# Altium integrated library National Semiconductor Switcher.IntLib: 2226 symbols (part 7 of 59)
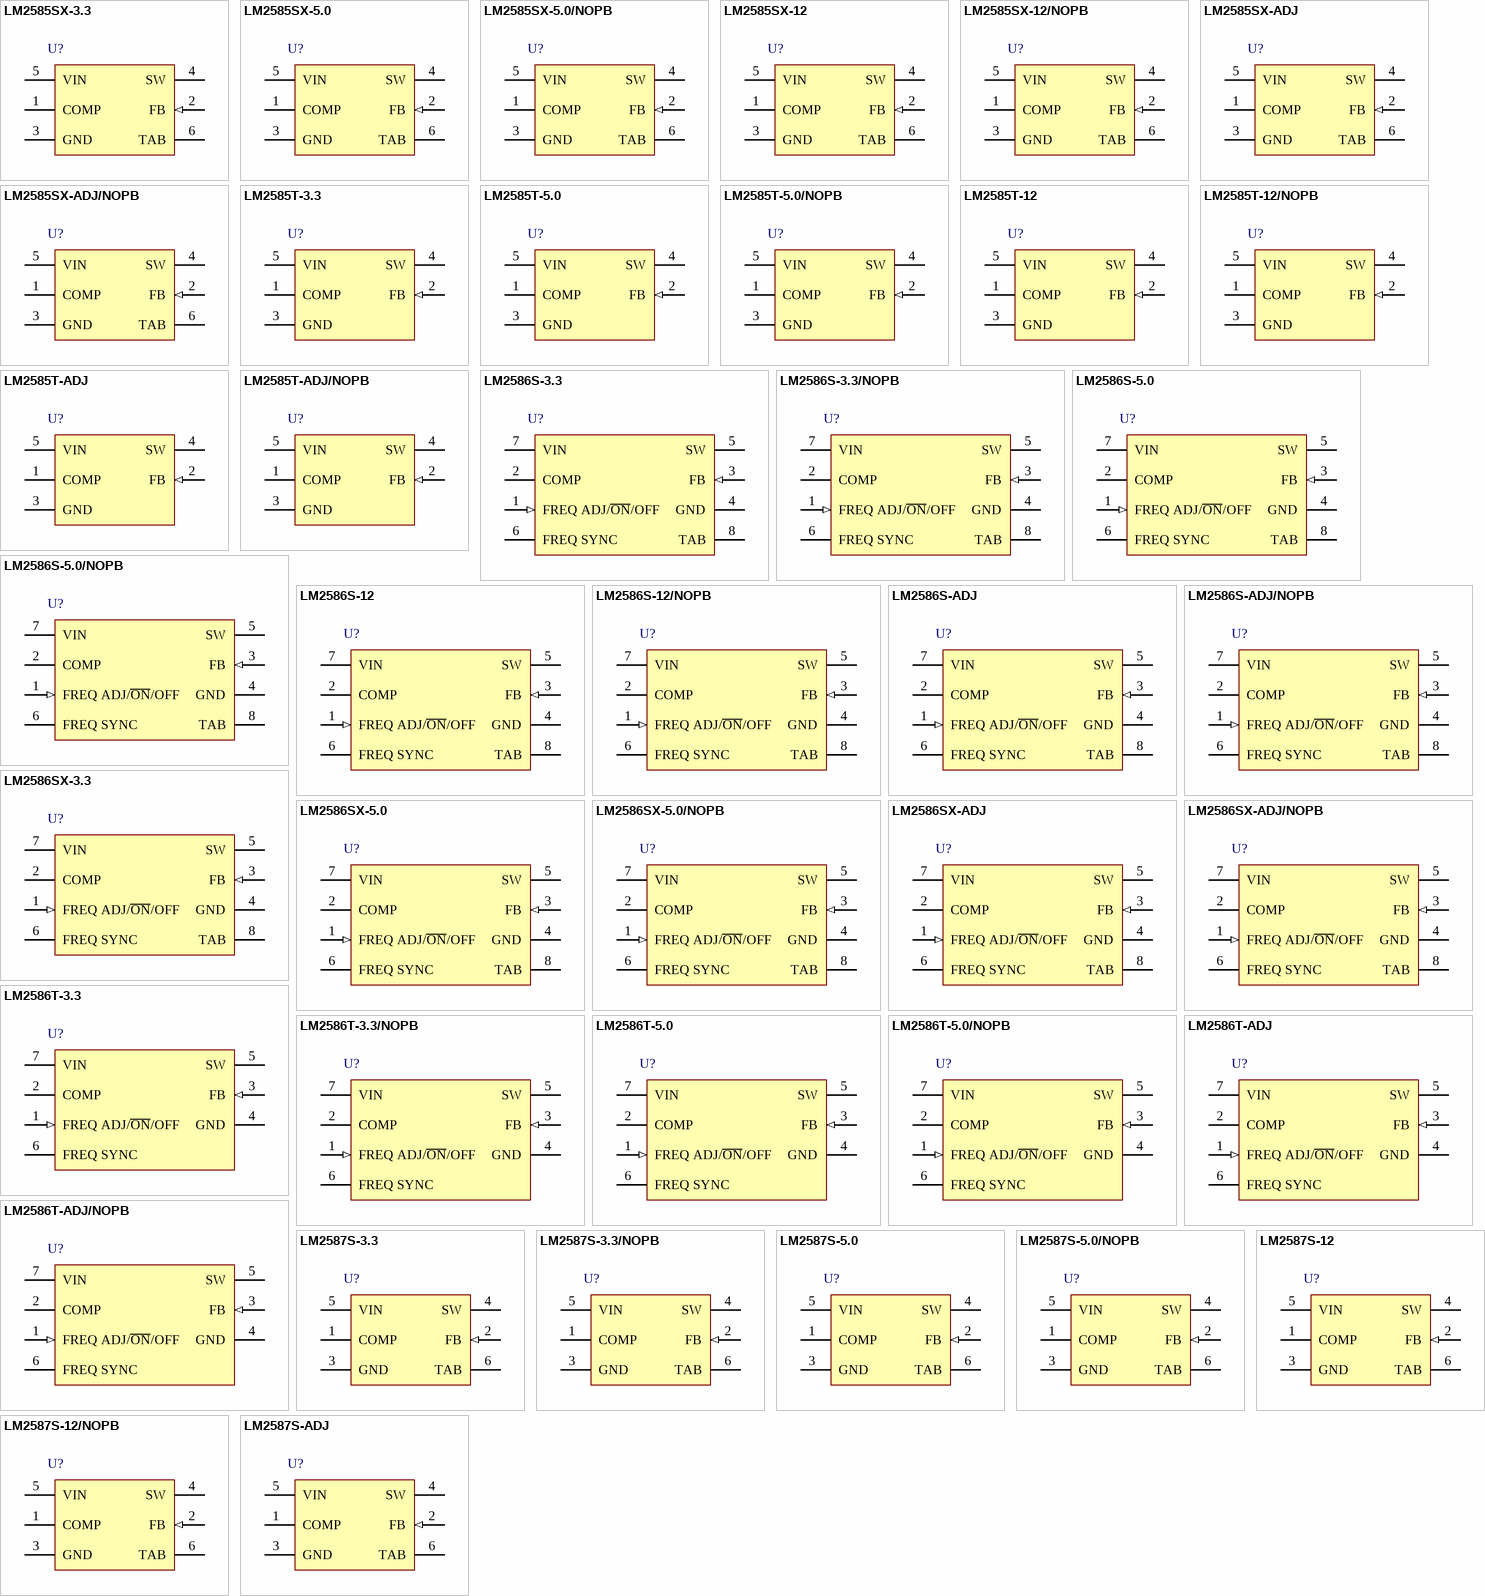
[diagram p75: symbols LM2585SX-3.3 to LM2587S-ADJ]

## LM2585SX-12/NOPB
designator U?
SIMPLE SWITCHER® 3-Amp Flyback Regulator, 5-pin TO-263, Pb-Free; PartNumber: LM2585SX-12/NOPB; Manufacturer: National Semiconductor; PackageTopMarking: NSUZXYTTE#*LM2585S*-12 P+; PowerWise: N; High-Reliability: Y; DatasheetVersion: Feb-2010; PackageVersion: revD, Apr-2005; PackageReference: TS5B; PackageDescription: TO-263, Molded, .400 x .390 x .180in, 5 Lead, .067in Pitch, Surface Mount; RoHS: Y; PinCount: 5; CompType: Switcher; Code_JEDEC: MO-169-AB; ComponentLink1Description: Manufacturer URL; ComponentLink1URL: http://www.national.com/; ComponentLink2Description: LM2585 Datasheet; ComponentLink2URL: http://www.national.com/ds/LM/LM2585.pdf; ComponentLink3Description: LM2585 Web Page; ComponentLink3URL: http://www.national.com/pf/LM/LM2585.html; ComponentLink4Description: TS5B Package Page; ComponentLink4URL: http://www.national.com/packaging/folders/ts5b.html
footprint TS5B_N (D2-PAK, 6-Leads, Body 8.6x10.2mm, Pitch 1.7mm, Lead Span 14.1mm, IPC Medium Density)
footprint TS5B_L (D2-PAK, 6-Leads, Body 8.6x10.2mm, Pitch 1.7mm, Lead Span 14.1mm, IPC High Density)
footprint TS5B_M (D2-PAK, 6-Leads, Body 8.6x10.2mm, Pitch 1.7mm, Lead Span 14.1mm, IPC Low Density)
pins: 1 COMP, 2 FB (in), 3 GND (power), 4 SW (power), 5 VIN (power), 6 TAB

## LM2585SX-ADJ
designator U?
SIMPLE SWITCHER® 3-Amp Flyback Regulator, 5-pin TO-263; PartNumber: LM2585SX-ADJ; Manufacturer: National Semiconductor; PackageTopMarking: NSUZXYTTE#*LM2585S*-ADJ P+; PowerWise: N; High-Reliability: Y; DatasheetVersion: Feb-2010; PackageVersion: revD, Apr-2005; PackageReference: TS5B; PackageDescription: TO-263, Molded, .400 x .390 x .180in, 5 Lead, .067in Pitch, Surface Mount; RoHS: N; PinCount: 5; CompType: Switcher; Code_JEDEC: MO-169-AB; ComponentLink1Description: Manufacturer URL; ComponentLink1URL: http://www.national.com/; ComponentLink2Description: LM2585 Datasheet; ComponentLink2URL: http://www.national.com/ds/LM/LM2585.pdf; ComponentLink3Description: LM2585 Web Page; ComponentLink3URL: http://www.national.com/pf/LM/LM2585.html; ComponentLink4Description: TS5B Package Page; ComponentLink4URL: http://www.national.com/packaging/folders/ts5b.html
footprint TS5B_N (D2-PAK, 6-Leads, Body 8.6x10.2mm, Pitch 1.7mm, Lead Span 14.1mm, IPC Medium Density)
footprint TS5B_L (D2-PAK, 6-Leads, Body 8.6x10.2mm, Pitch 1.7mm, Lead Span 14.1mm, IPC High Density)
footprint TS5B_M (D2-PAK, 6-Leads, Body 8.6x10.2mm, Pitch 1.7mm, Lead Span 14.1mm, IPC Low Density)
pins: 1 COMP, 2 FB (in), 3 GND (power), 4 SW (power), 5 VIN (power), 6 TAB

## LM2585SX-ADJ/NOPB
designator U?
SIMPLE SWITCHER® 3-Amp Flyback Regulator, 5-pin TO-263, Pb-Free; PartNumber: LM2585SX-ADJ/NOPB; Manufacturer: National Semiconductor; PackageTopMarking: NSUZXYTTE#*LM2585S*-ADJ P+; PowerWise: N; High-Reliability: Y; DatasheetVersion: Feb-2010; PackageVersion: revD, Apr-2005; PackageReference: TS5B; PackageDescription: TO-263, Molded, .400 x .390 x .180in, 5 Lead, .067in Pitch, Surface Mount; RoHS: Y; PinCount: 5; CompType: Switcher; Code_JEDEC: MO-169-AB; ComponentLink1Description: Manufacturer URL; ComponentLink1URL: http://www.national.com/; ComponentLink2Description: LM2585 Datasheet; ComponentLink2URL: http://www.national.com/ds/LM/LM2585.pdf; ComponentLink3Description: LM2585 Web Page; ComponentLink3URL: http://www.national.com/pf/LM/LM2585.html; ComponentLink4Description: TS5B Package Page; ComponentLink4URL: http://www.national.com/packaging/folders/ts5b.html
footprint TS5B_N (D2-PAK, 6-Leads, Body 8.6x10.2mm, Pitch 1.7mm, Lead Span 14.1mm, IPC Medium Density)
footprint TS5B_L (D2-PAK, 6-Leads, Body 8.6x10.2mm, Pitch 1.7mm, Lead Span 14.1mm, IPC High Density)
footprint TS5B_M (D2-PAK, 6-Leads, Body 8.6x10.2mm, Pitch 1.7mm, Lead Span 14.1mm, IPC Low Density)
pins: 1 COMP, 2 FB (in), 3 GND (power), 4 SW (power), 5 VIN (power), 6 TAB

## LM2585T-3.3
designator U?
SIMPLE SWITCHER® 3-Amp Flyback Regulator, 5-pin TO-220; PartNumber: LM2585T-3.3; Manufacturer: National Semiconductor; PackageTopMarking: NSUZXYTTE#*LM2585T*-3.3 P+; PowerWise: N; High-Reliability: Y; DatasheetVersion: Feb-2010; PackageVersion: revA, Oct-1989; PackageReference: T05D; PackageDescription: TO-220, Molded, Stagger Bend, 5 Lead; RoHS: N; PinCount: 5; CompType: Switcher; ComponentLink1Description: Manufacturer URL; ComponentLink1URL: http://www.national.com/; ComponentLink2Description: LM2585 Datasheet; ComponentLink2URL: http://www.national.com/ds/LM/LM2585.pdf; ComponentLink3Description: LM2585 Web Page; ComponentLink3URL: http://www.national.com/pf/LM/LM2585.html; ComponentLink4Description: T05D Package Page; ComponentLink4URL: http://www.national.com/packaging/folders/t05d.html
footprint T05D (TO, Thru-Hole, Vertical, Heatsink Mounted; 5 Bent Staggered Leads; Body 10.3x8.6x4.6mm, Pitch 1.7 mm)
pins: 1 COMP, 2 FB (in), 3 GND (power), 4 SW (power), 5 VIN (power)

## LM2585T-5.0
designator U?
SIMPLE SWITCHER® 3-Amp Flyback Regulator, 5-pin TO-220; PartNumber: LM2585T-5.0; Manufacturer: National Semiconductor; PackageTopMarking: NSUZXYTTE#*LM2585T*-5.0 P+; PowerWise: N; High-Reliability: Y; DatasheetVersion: Feb-2010; PackageVersion: revA, Oct-1989; PackageReference: T05D; PackageDescription: TO-220, Molded, Stagger Bend, 5 Lead; RoHS: N; PinCount: 5; CompType: Switcher; ComponentLink1Description: Manufacturer URL; ComponentLink1URL: http://www.national.com/; ComponentLink2Description: LM2585 Datasheet; ComponentLink2URL: http://www.national.com/ds/LM/LM2585.pdf; ComponentLink3Description: LM2585 Web Page; ComponentLink3URL: http://www.national.com/pf/LM/LM2585.html; ComponentLink4Description: T05D Package Page; ComponentLink4URL: http://www.national.com/packaging/folders/t05d.html
footprint T05D (TO, Thru-Hole, Vertical, Heatsink Mounted; 5 Bent Staggered Leads; Body 10.3x8.6x4.6mm, Pitch 1.7 mm)
pins: 1 COMP, 2 FB (in), 3 GND (power), 4 SW (power), 5 VIN (power)

## LM2585T-5.0/NOPB
designator U?
SIMPLE SWITCHER® 3-Amp Flyback Regulator, 5-pin TO-220, Pb-Free; PartNumber: LM2585T-5.0/NOPB; Manufacturer: National Semiconductor; PackageTopMarking: NSUZXYTTE#*LM2585T*-5.0 P+; PowerWise: N; High-Reliability: Y; DatasheetVersion: Feb-2010; PackageVersion: revA, Oct-1989; PackageReference: T05D; PackageDescription: TO-220, Molded, Stagger Bend, 5 Lead; RoHS: Y; PinCount: 5; CompType: Switcher; ComponentLink1Description: Manufacturer URL; ComponentLink1URL: http://www.national.com/; ComponentLink2Description: LM2585 Datasheet; ComponentLink2URL: http://www.national.com/ds/LM/LM2585.pdf; ComponentLink3Description: LM2585 Web Page; ComponentLink3URL: http://www.national.com/pf/LM/LM2585.html; ComponentLink4Description: T05D Package Page; ComponentLink4URL: http://www.national.com/packaging/folders/t05d.html
footprint T05D (TO, Thru-Hole, Vertical, Heatsink Mounted; 5 Bent Staggered Leads; Body 10.3x8.6x4.6mm, Pitch 1.7 mm)
pins: 1 COMP, 2 FB (in), 3 GND (power), 4 SW (power), 5 VIN (power)

## LM2585T-12
designator U?
SIMPLE SWITCHER® 3-Amp Flyback Regulator, 5-pin TO-220; PartNumber: LM2585T-12; Manufacturer: National Semiconductor; PackageTopMarking: NSUZXYTTE#*LM2585T*-12 P+; PowerWise: N; High-Reliability: Y; DatasheetVersion: Feb-2010; PackageVersion: revA, Oct-1989; PackageReference: T05D; PackageDescription: TO-220, Molded, Stagger Bend, 5 Lead; RoHS: N; PinCount: 5; CompType: Switcher; ComponentLink1Description: Manufacturer URL; ComponentLink1URL: http://www.national.com/; ComponentLink2Description: LM2585 Datasheet; ComponentLink2URL: http://www.national.com/ds/LM/LM2585.pdf; ComponentLink3Description: LM2585 Web Page; ComponentLink3URL: http://www.national.com/pf/LM/LM2585.html; ComponentLink4Description: T05D Package Page; ComponentLink4URL: http://www.national.com/packaging/folders/t05d.html
footprint T05D (TO, Thru-Hole, Vertical, Heatsink Mounted; 5 Bent Staggered Leads; Body 10.3x8.6x4.6mm, Pitch 1.7 mm)
pins: 1 COMP, 2 FB (in), 3 GND (power), 4 SW (power), 5 VIN (power)

## LM2585T-12/NOPB
designator U?
SIMPLE SWITCHER® 3-Amp Flyback Regulator, 5-pin TO-220, Pb-Free; PartNumber: LM2585T-12/NOPB; Manufacturer: National Semiconductor; PackageTopMarking: NSUZXYTTE#*LM2585T*-12 P+; PowerWise: N; High-Reliability: Y; DatasheetVersion: Feb-2010; PackageVersion: revA, Oct-1989; PackageReference: T05D; PackageDescription: TO-220, Molded, Stagger Bend, 5 Lead; RoHS: Y; PinCount: 5; CompType: Switcher; ComponentLink1Description: Manufacturer URL; ComponentLink1URL: http://www.national.com/; ComponentLink2Description: LM2585 Datasheet; ComponentLink2URL: http://www.national.com/ds/LM/LM2585.pdf; ComponentLink3Description: LM2585 Web Page; ComponentLink3URL: http://www.national.com/pf/LM/LM2585.html; ComponentLink4Description: T05D Package Page; ComponentLink4URL: http://www.national.com/packaging/folders/t05d.html
footprint T05D (TO, Thru-Hole, Vertical, Heatsink Mounted; 5 Bent Staggered Leads; Body 10.3x8.6x4.6mm, Pitch 1.7 mm)
pins: 1 COMP, 2 FB (in), 3 GND (power), 4 SW (power), 5 VIN (power)

## LM2585T-ADJ
designator U?
SIMPLE SWITCHER® 3-Amp Flyback Regulator, 5-pin TO-220; PartNumber: LM2585T-ADJ; Manufacturer: National Semiconductor; PackageTopMarking: NSUZXYTTE#*LM2585T*-ADJ P+; PowerWise: N; High-Reliability: Y; DatasheetVersion: Feb-2010; PackageVersion: revA, Oct-1989; PackageReference: T05D; PackageDescription: TO-220, Molded, Stagger Bend, 5 Lead; RoHS: N; PinCount: 5; CompType: Switcher; ComponentLink1Description: Manufacturer URL; ComponentLink1URL: http://www.national.com/; ComponentLink2Description: LM2585 Datasheet; ComponentLink2URL: http://www.national.com/ds/LM/LM2585.pdf; ComponentLink3Description: LM2585 Web Page; ComponentLink3URL: http://www.national.com/pf/LM/LM2585.html; ComponentLink4Description: T05D Package Page; ComponentLink4URL: http://www.national.com/packaging/folders/t05d.html
footprint T05D (TO, Thru-Hole, Vertical, Heatsink Mounted; 5 Bent Staggered Leads; Body 10.3x8.6x4.6mm, Pitch 1.7 mm)
pins: 1 COMP, 2 FB (in), 3 GND (power), 4 SW (power), 5 VIN (power)

## LM2585T-ADJ/NOPB
designator U?
SIMPLE SWITCHER® 3-Amp Flyback Regulator, 5-pin TO-220, Pb-Free; PartNumber: LM2585T-ADJ/NOPB; Manufacturer: National Semiconductor; PackageTopMarking: NSUZXYTTE#*LM2585T*-ADJ P+; PowerWise: N; High-Reliability: Y; DatasheetVersion: Feb-2010; PackageVersion: revA, Oct-1989; PackageReference: T05D; PackageDescription: TO-220, Molded, Stagger Bend, 5 Lead; RoHS: Y; PinCount: 5; CompType: Switcher; ComponentLink1Description: Manufacturer URL; ComponentLink1URL: http://www.national.com/; ComponentLink2Description: LM2585 Datasheet; ComponentLink2URL: http://www.national.com/ds/LM/LM2585.pdf; ComponentLink3Description: LM2585 Web Page; ComponentLink3URL: http://www.national.com/pf/LM/LM2585.html; ComponentLink4Description: T05D Package Page; ComponentLink4URL: http://www.national.com/packaging/folders/t05d.html
footprint T05D (TO, Thru-Hole, Vertical, Heatsink Mounted; 5 Bent Staggered Leads; Body 10.3x8.6x4.6mm, Pitch 1.7 mm)
pins: 1 COMP, 2 FB (in), 3 GND (power), 4 SW (power), 5 VIN (power)

## LM2586S-3.3
designator U?
SIMPLE SWITCHER® 3-Amp Flyback Regulator, 7-pin TO-263; PartNumber: LM2586S-3.3; Manufacturer: National Semiconductor; PackageTopMarking: NSUZXYTTE#*LM2586S*-3.3 P+; PowerWise: N; High-Reliability: Y; DatasheetVersion: Jul-2005; PackageVersion: revE, Jul-2003; PackageReference: TS7B; PackageDescription: TO-263, Molded, .400 x .390 x .180in Body, 7 Lead, .050in Pitch, Surface Mount; RoHS: N; PinCount: 7; CompType: Switcher; Code_JEDEC: MO-169-AC; ComponentLink1Description: Manufacturer URL; ComponentLink1URL: http://www.national.com/; ComponentLink2Description: LM2586 Datasheet; ComponentLink2URL: http://www.national.com/ds/LM/LM2586.pdf; ComponentLink3Description: LM2586 Web Page; ComponentLink3URL: http://www.national.com/pf/LM/LM2586.html; ComponentLink4Description: TS7B Package Page; ComponentLink4URL: http://www.national.com/packaging/folders/ts7b.html
footprint TS7B_N (D2-PAK, 8-Leads, Body 8.6x10.2mm, Pitch 1.27mm, Lead Span 14.1mm, IPC Medium Density)
footprint TS7B_L (D2-PAK, 8-Leads, Body 8.6x10.2mm, Pitch 1.27mm, Lead Span 14.1mm, IPC High Density)
footprint TS7B_M (D2-PAK, 8-Leads, Body 8.6x10.2mm, Pitch 1.27mm, Lead Span 14.1mm, IPC Low Density)
pins: 1 FREQ ADJ/~{ON}/OFF (in), 2 COMP, 3 FB (in), 4 GND (power), 5 SW (power), 6 FREQ SYNC, 7 VIN (power), 8 TAB

## LM2586S-3.3/NOPB
designator U?
SIMPLE SWITCHER® 3-Amp Flyback Regulator, 7-pin TO-263, Pb-Free; PartNumber: LM2586S-3.3/NOPB; Manufacturer: National Semiconductor; PackageTopMarking: NSUZXYTTE#*LM2586S*-3.3 P+; PowerWise: N; High-Reliability: Y; DatasheetVersion: Jul-2005; PackageVersion: revE, Jul-2003; PackageReference: TS7B; PackageDescription: TO-263, Molded, .400 x .390 x .180in Body, 7 Lead, .050in Pitch, Surface Mount; RoHS: Y; PinCount: 7; CompType: Switcher; Code_JEDEC: MO-169-AC; ComponentLink1Description: Manufacturer URL; ComponentLink1URL: http://www.national.com/; ComponentLink2Description: LM2586 Datasheet; ComponentLink2URL: http://www.national.com/ds/LM/LM2586.pdf; ComponentLink3Description: LM2586 Web Page; ComponentLink3URL: http://www.national.com/pf/LM/LM2586.html; ComponentLink4Description: TS7B Package Page; ComponentLink4URL: http://www.national.com/packaging/folders/ts7b.html
footprint TS7B_N (D2-PAK, 8-Leads, Body 8.6x10.2mm, Pitch 1.27mm, Lead Span 14.1mm, IPC Medium Density)
footprint TS7B_L (D2-PAK, 8-Leads, Body 8.6x10.2mm, Pitch 1.27mm, Lead Span 14.1mm, IPC High Density)
footprint TS7B_M (D2-PAK, 8-Leads, Body 8.6x10.2mm, Pitch 1.27mm, Lead Span 14.1mm, IPC Low Density)
pins: 1 FREQ ADJ/~{ON}/OFF (in), 2 COMP, 3 FB (in), 4 GND (power), 5 SW (power), 6 FREQ SYNC, 7 VIN (power), 8 TAB

## LM2586S-5.0
designator U?
SIMPLE SWITCHER® 3-Amp Flyback Regulator, 7-pin TO-263; PartNumber: LM2586S-5.0; Manufacturer: National Semiconductor; PackageTopMarking: NSUZXYTTE#*LM2586S*-5.0 P+; PowerWise: N; High-Reliability: Y; DatasheetVersion: Jul-2005; PackageVersion: revE, Jul-2003; PackageReference: TS7B; PackageDescription: TO-263, Molded, .400 x .390 x .180in Body, 7 Lead, .050in Pitch, Surface Mount; RoHS: N; PinCount: 7; CompType: Switcher; Code_JEDEC: MO-169-AC; ComponentLink1Description: Manufacturer URL; ComponentLink1URL: http://www.national.com/; ComponentLink2Description: LM2586 Datasheet; ComponentLink2URL: http://www.national.com/ds/LM/LM2586.pdf; ComponentLink3Description: LM2586 Web Page; ComponentLink3URL: http://www.national.com/pf/LM/LM2586.html; ComponentLink4Description: TS7B Package Page; ComponentLink4URL: http://www.national.com/packaging/folders/ts7b.html
footprint TS7B_N (D2-PAK, 8-Leads, Body 8.6x10.2mm, Pitch 1.27mm, Lead Span 14.1mm, IPC Medium Density)
footprint TS7B_L (D2-PAK, 8-Leads, Body 8.6x10.2mm, Pitch 1.27mm, Lead Span 14.1mm, IPC High Density)
footprint TS7B_M (D2-PAK, 8-Leads, Body 8.6x10.2mm, Pitch 1.27mm, Lead Span 14.1mm, IPC Low Density)
pins: 1 FREQ ADJ/~{ON}/OFF (in), 2 COMP, 3 FB (in), 4 GND (power), 5 SW (power), 6 FREQ SYNC, 7 VIN (power), 8 TAB

## LM2586S-5.0/NOPB
designator U?
SIMPLE SWITCHER® 3-Amp Flyback Regulator, 7-pin TO-263, Pb-Free; PartNumber: LM2586S-5.0/NOPB; Manufacturer: National Semiconductor; PackageTopMarking: NSUZXYTTE#*LM2586S*-5.0 P+; PowerWise: N; High-Reliability: Y; DatasheetVersion: Jul-2005; PackageVersion: revE, Jul-2003; PackageReference: TS7B; PackageDescription: TO-263, Molded, .400 x .390 x .180in Body, 7 Lead, .050in Pitch, Surface Mount; RoHS: Y; PinCount: 7; CompType: Switcher; Code_JEDEC: MO-169-AC; ComponentLink1Description: Manufacturer URL; ComponentLink1URL: http://www.national.com/; ComponentLink2Description: LM2586 Datasheet; ComponentLink2URL: http://www.national.com/ds/LM/LM2586.pdf; ComponentLink3Description: LM2586 Web Page; ComponentLink3URL: http://www.national.com/pf/LM/LM2586.html; ComponentLink4Description: TS7B Package Page; ComponentLink4URL: http://www.national.com/packaging/folders/ts7b.html
footprint TS7B_N (D2-PAK, 8-Leads, Body 8.6x10.2mm, Pitch 1.27mm, Lead Span 14.1mm, IPC Medium Density)
footprint TS7B_L (D2-PAK, 8-Leads, Body 8.6x10.2mm, Pitch 1.27mm, Lead Span 14.1mm, IPC High Density)
footprint TS7B_M (D2-PAK, 8-Leads, Body 8.6x10.2mm, Pitch 1.27mm, Lead Span 14.1mm, IPC Low Density)
pins: 1 FREQ ADJ/~{ON}/OFF (in), 2 COMP, 3 FB (in), 4 GND (power), 5 SW (power), 6 FREQ SYNC, 7 VIN (power), 8 TAB

## LM2586S-12
designator U?
SIMPLE SWITCHER® 3-Amp Flyback Regulator, 7-pin TO-263; PartNumber: LM2586S-12; Manufacturer: National Semiconductor; PackageTopMarking: NSUZXYTTE#*LM2586S*-12 P+; PowerWise: N; High-Reliability: Y; DatasheetVersion: Jul-2005; PackageVersion: revE, Jul-2003; PackageReference: TS7B; PackageDescription: TO-263, Molded, .400 x .390 x .180in Body, 7 Lead, .050in Pitch, Surface Mount; RoHS: N; PinCount: 7; CompType: Switcher; Code_JEDEC: MO-169-AC; ComponentLink1Description: Manufacturer URL; ComponentLink1URL: http://www.national.com/; ComponentLink2Description: LM2586 Datasheet; ComponentLink2URL: http://www.national.com/ds/LM/LM2586.pdf; ComponentLink3Description: LM2586 Web Page; ComponentLink3URL: http://www.national.com/pf/LM/LM2586.html; ComponentLink4Description: TS7B Package Page; ComponentLink4URL: http://www.national.com/packaging/folders/ts7b.html
footprint TS7B_N (D2-PAK, 8-Leads, Body 8.6x10.2mm, Pitch 1.27mm, Lead Span 14.1mm, IPC Medium Density)
footprint TS7B_L (D2-PAK, 8-Leads, Body 8.6x10.2mm, Pitch 1.27mm, Lead Span 14.1mm, IPC High Density)
footprint TS7B_M (D2-PAK, 8-Leads, Body 8.6x10.2mm, Pitch 1.27mm, Lead Span 14.1mm, IPC Low Density)
pins: 1 FREQ ADJ/~{ON}/OFF (in), 2 COMP, 3 FB (in), 4 GND (power), 5 SW (power), 6 FREQ SYNC, 7 VIN (power), 8 TAB

## LM2586S-12/NOPB
designator U?
SIMPLE SWITCHER® 3-Amp Flyback Regulator, 7-pin TO-263, Pb-Free; PartNumber: LM2586S-12/NOPB; Manufacturer: National Semiconductor; PackageTopMarking: NSUZXYTTE#*LM2586S*-12 P+; PowerWise: N; High-Reliability: Y; DatasheetVersion: Jul-2005; PackageVersion: revE, Jul-2003; PackageReference: TS7B; PackageDescription: TO-263, Molded, .400 x .390 x .180in Body, 7 Lead, .050in Pitch, Surface Mount; RoHS: Y; PinCount: 7; CompType: Switcher; Code_JEDEC: MO-169-AC; ComponentLink1Description: Manufacturer URL; ComponentLink1URL: http://www.national.com/; ComponentLink2Description: LM2586 Datasheet; ComponentLink2URL: http://www.national.com/ds/LM/LM2586.pdf; ComponentLink3Description: LM2586 Web Page; ComponentLink3URL: http://www.national.com/pf/LM/LM2586.html; ComponentLink4Description: TS7B Package Page; ComponentLink4URL: http://www.national.com/packaging/folders/ts7b.html
footprint TS7B_N (D2-PAK, 8-Leads, Body 8.6x10.2mm, Pitch 1.27mm, Lead Span 14.1mm, IPC Medium Density)
footprint TS7B_L (D2-PAK, 8-Leads, Body 8.6x10.2mm, Pitch 1.27mm, Lead Span 14.1mm, IPC High Density)
footprint TS7B_M (D2-PAK, 8-Leads, Body 8.6x10.2mm, Pitch 1.27mm, Lead Span 14.1mm, IPC Low Density)
pins: 1 FREQ ADJ/~{ON}/OFF (in), 2 COMP, 3 FB (in), 4 GND (power), 5 SW (power), 6 FREQ SYNC, 7 VIN (power), 8 TAB

## LM2586S-ADJ
designator U?
SIMPLE SWITCHER® 3-Amp Flyback Regulator, 7-pin TO-263; PartNumber: LM2586S-ADJ; Manufacturer: National Semiconductor; PackageTopMarking: NSUZXYTTE#*LM2586S*-ADJ P+; PowerWise: N; High-Reliability: Y; DatasheetVersion: Jul-2005; PackageVersion: revE, Jul-2003; PackageReference: TS7B; PackageDescription: TO-263, Molded, .400 x .390 x .180in Body, 7 Lead, .050in Pitch, Surface Mount; RoHS: N; PinCount: 7; CompType: Switcher; Code_JEDEC: MO-169-AC; ComponentLink1Description: Manufacturer URL; ComponentLink1URL: http://www.national.com/; ComponentLink2Description: LM2586 Datasheet; ComponentLink2URL: http://www.national.com/ds/LM/LM2586.pdf; ComponentLink3Description: LM2586 Web Page; ComponentLink3URL: http://www.national.com/pf/LM/LM2586.html; ComponentLink4Description: TS7B Package Page; ComponentLink4URL: http://www.national.com/packaging/folders/ts7b.html
footprint TS7B_N (D2-PAK, 8-Leads, Body 8.6x10.2mm, Pitch 1.27mm, Lead Span 14.1mm, IPC Medium Density)
footprint TS7B_L (D2-PAK, 8-Leads, Body 8.6x10.2mm, Pitch 1.27mm, Lead Span 14.1mm, IPC High Density)
footprint TS7B_M (D2-PAK, 8-Leads, Body 8.6x10.2mm, Pitch 1.27mm, Lead Span 14.1mm, IPC Low Density)
pins: 1 FREQ ADJ/~{ON}/OFF (in), 2 COMP, 3 FB (in), 4 GND (power), 5 SW (power), 6 FREQ SYNC, 7 VIN (power), 8 TAB

## LM2586S-ADJ/NOPB
designator U?
SIMPLE SWITCHER® 3-Amp Flyback Regulator, 7-pin TO-263, Pb-Free; PartNumber: LM2586S-ADJ/NOPB; Manufacturer: National Semiconductor; PackageTopMarking: NSUZXYTTE#*LM2586S*-ADJ P+; PowerWise: N; High-Reliability: Y; DatasheetVersion: Jul-2005; PackageVersion: revE, Jul-2003; PackageReference: TS7B; PackageDescription: TO-263, Molded, .400 x .390 x .180in Body, 7 Lead, .050in Pitch, Surface Mount; RoHS: Y; PinCount: 7; CompType: Switcher; Code_JEDEC: MO-169-AC; ComponentLink1Description: Manufacturer URL; ComponentLink1URL: http://www.national.com/; ComponentLink2Description: LM2586 Datasheet; ComponentLink2URL: http://www.national.com/ds/LM/LM2586.pdf; ComponentLink3Description: LM2586 Web Page; ComponentLink3URL: http://www.national.com/pf/LM/LM2586.html; ComponentLink4Description: TS7B Package Page; ComponentLink4URL: http://www.national.com/packaging/folders/ts7b.html
footprint TS7B_N (D2-PAK, 8-Leads, Body 8.6x10.2mm, Pitch 1.27mm, Lead Span 14.1mm, IPC Medium Density)
footprint TS7B_L (D2-PAK, 8-Leads, Body 8.6x10.2mm, Pitch 1.27mm, Lead Span 14.1mm, IPC High Density)
footprint TS7B_M (D2-PAK, 8-Leads, Body 8.6x10.2mm, Pitch 1.27mm, Lead Span 14.1mm, IPC Low Density)
pins: 1 FREQ ADJ/~{ON}/OFF (in), 2 COMP, 3 FB (in), 4 GND (power), 5 SW (power), 6 FREQ SYNC, 7 VIN (power), 8 TAB

## LM2586SX-3.3
designator U?
SIMPLE SWITCHER® 3-Amp Flyback Regulator, 7-pin TO-263; PartNumber: LM2586SX-3.3; Manufacturer: National Semiconductor; PackageTopMarking: NSUZXYTTE#*LM2586S*-3.3 P+; PowerWise: N; High-Reliability: Y; DatasheetVersion: Jul-2005; PackageVersion: revE, Jul-2003; PackageReference: TS7B; PackageDescription: TO-263, Molded, .400 x .390 x .180in Body, 7 Lead, .050in Pitch, Surface Mount; RoHS: N; PinCount: 7; CompType: Switcher; Code_JEDEC: MO-169-AC; ComponentLink1Description: Manufacturer URL; ComponentLink1URL: http://www.national.com/; ComponentLink2Description: LM2586 Datasheet; ComponentLink2URL: http://www.national.com/ds/LM/LM2586.pdf; ComponentLink3Description: LM2586 Web Page; ComponentLink3URL: http://www.national.com/pf/LM/LM2586.html; ComponentLink4Description: TS7B Package Page; ComponentLink4URL: http://www.national.com/packaging/folders/ts7b.html
footprint TS7B_N (D2-PAK, 8-Leads, Body 8.6x10.2mm, Pitch 1.27mm, Lead Span 14.1mm, IPC Medium Density)
footprint TS7B_L (D2-PAK, 8-Leads, Body 8.6x10.2mm, Pitch 1.27mm, Lead Span 14.1mm, IPC High Density)
footprint TS7B_M (D2-PAK, 8-Leads, Body 8.6x10.2mm, Pitch 1.27mm, Lead Span 14.1mm, IPC Low Density)
pins: 1 FREQ ADJ/~{ON}/OFF (in), 2 COMP, 3 FB (in), 4 GND (power), 5 SW (power), 6 FREQ SYNC, 7 VIN (power), 8 TAB

## LM2586SX-5.0
designator U?
SIMPLE SWITCHER® 3-Amp Flyback Regulator, 7-pin TO-263; PartNumber: LM2586SX-5.0; Manufacturer: National Semiconductor; PackageTopMarking: NSUZXYTTE#*LM2586S*-5.0 P+; PowerWise: N; High-Reliability: Y; DatasheetVersion: Jul-2005; PackageVersion: revE, Jul-2003; PackageReference: TS7B; PackageDescription: TO-263, Molded, .400 x .390 x .180in Body, 7 Lead, .050in Pitch, Surface Mount; RoHS: N; PinCount: 7; CompType: Switcher; Code_JEDEC: MO-169-AC; ComponentLink1Description: Manufacturer URL; ComponentLink1URL: http://www.national.com/; ComponentLink2Description: LM2586 Datasheet; ComponentLink2URL: http://www.national.com/ds/LM/LM2586.pdf; ComponentLink3Description: LM2586 Web Page; ComponentLink3URL: http://www.national.com/pf/LM/LM2586.html; ComponentLink4Description: TS7B Package Page; ComponentLink4URL: http://www.national.com/packaging/folders/ts7b.html
footprint TS7B_N (D2-PAK, 8-Leads, Body 8.6x10.2mm, Pitch 1.27mm, Lead Span 14.1mm, IPC Medium Density)
footprint TS7B_L (D2-PAK, 8-Leads, Body 8.6x10.2mm, Pitch 1.27mm, Lead Span 14.1mm, IPC High Density)
footprint TS7B_M (D2-PAK, 8-Leads, Body 8.6x10.2mm, Pitch 1.27mm, Lead Span 14.1mm, IPC Low Density)
pins: 1 FREQ ADJ/~{ON}/OFF (in), 2 COMP, 3 FB (in), 4 GND (power), 5 SW (power), 6 FREQ SYNC, 7 VIN (power), 8 TAB

## LM2586SX-5.0/NOPB
designator U?
SIMPLE SWITCHER® 3-Amp Flyback Regulator, 7-pin TO-263, Pb-Free; PartNumber: LM2586SX-5.0/NOPB; Manufacturer: National Semiconductor; PackageTopMarking: NSUZXYTTE#*LM2586S*-5.0 P+; PowerWise: N; High-Reliability: Y; DatasheetVersion: Jul-2005; PackageVersion: revE, Jul-2003; PackageReference: TS7B; PackageDescription: TO-263, Molded, .400 x .390 x .180in Body, 7 Lead, .050in Pitch, Surface Mount; RoHS: Y; PinCount: 7; CompType: Switcher; Code_JEDEC: MO-169-AC; ComponentLink1Description: Manufacturer URL; ComponentLink1URL: http://www.national.com/; ComponentLink2Description: LM2586 Datasheet; ComponentLink2URL: http://www.national.com/ds/LM/LM2586.pdf; ComponentLink3Description: LM2586 Web Page; ComponentLink3URL: http://www.national.com/pf/LM/LM2586.html; ComponentLink4Description: TS7B Package Page; ComponentLink4URL: http://www.national.com/packaging/folders/ts7b.html
footprint TS7B_N (D2-PAK, 8-Leads, Body 8.6x10.2mm, Pitch 1.27mm, Lead Span 14.1mm, IPC Medium Density)
footprint TS7B_L (D2-PAK, 8-Leads, Body 8.6x10.2mm, Pitch 1.27mm, Lead Span 14.1mm, IPC High Density)
footprint TS7B_M (D2-PAK, 8-Leads, Body 8.6x10.2mm, Pitch 1.27mm, Lead Span 14.1mm, IPC Low Density)
pins: 1 FREQ ADJ/~{ON}/OFF (in), 2 COMP, 3 FB (in), 4 GND (power), 5 SW (power), 6 FREQ SYNC, 7 VIN (power), 8 TAB

## LM2586SX-ADJ
designator U?
SIMPLE SWITCHER® 3-Amp Flyback Regulator, 7-pin TO-263; PartNumber: LM2586SX-ADJ; Manufacturer: National Semiconductor; PackageTopMarking: NSUZXYTTE#*LM2586S*-ADJ P+; PowerWise: N; High-Reliability: Y; DatasheetVersion: Jul-2005; PackageVersion: revE, Jul-2003; PackageReference: TS7B; PackageDescription: TO-263, Molded, .400 x .390 x .180in Body, 7 Lead, .050in Pitch, Surface Mount; RoHS: N; PinCount: 7; CompType: Switcher; Code_JEDEC: MO-169-AC; ComponentLink1Description: Manufacturer URL; ComponentLink1URL: http://www.national.com/; ComponentLink2Description: LM2586 Datasheet; ComponentLink2URL: http://www.national.com/ds/LM/LM2586.pdf; ComponentLink3Description: LM2586 Web Page; ComponentLink3URL: http://www.national.com/pf/LM/LM2586.html; ComponentLink4Description: TS7B Package Page; ComponentLink4URL: http://www.national.com/packaging/folders/ts7b.html
footprint TS7B_N (D2-PAK, 8-Leads, Body 8.6x10.2mm, Pitch 1.27mm, Lead Span 14.1mm, IPC Medium Density)
footprint TS7B_L (D2-PAK, 8-Leads, Body 8.6x10.2mm, Pitch 1.27mm, Lead Span 14.1mm, IPC High Density)
footprint TS7B_M (D2-PAK, 8-Leads, Body 8.6x10.2mm, Pitch 1.27mm, Lead Span 14.1mm, IPC Low Density)
pins: 1 FREQ ADJ/~{ON}/OFF (in), 2 COMP, 3 FB (in), 4 GND (power), 5 SW (power), 6 FREQ SYNC, 7 VIN (power), 8 TAB

## LM2586SX-ADJ/NOPB
designator U?
SIMPLE SWITCHER® 3-Amp Flyback Regulator, 7-pin TO-263, Pb-Free; PartNumber: LM2586SX-ADJ/NOPB; Manufacturer: National Semiconductor; PackageTopMarking: NSUZXYTTE#*LM2586S*-ADJ P+; PowerWise: N; High-Reliability: Y; DatasheetVersion: Jul-2005; PackageVersion: revE, Jul-2003; PackageReference: TS7B; PackageDescription: TO-263, Molded, .400 x .390 x .180in Body, 7 Lead, .050in Pitch, Surface Mount; RoHS: Y; PinCount: 7; CompType: Switcher; Code_JEDEC: MO-169-AC; ComponentLink1Description: Manufacturer URL; ComponentLink1URL: http://www.national.com/; ComponentLink2Description: LM2586 Datasheet; ComponentLink2URL: http://www.national.com/ds/LM/LM2586.pdf; ComponentLink3Description: LM2586 Web Page; ComponentLink3URL: http://www.national.com/pf/LM/LM2586.html; ComponentLink4Description: TS7B Package Page; ComponentLink4URL: http://www.national.com/packaging/folders/ts7b.html
footprint TS7B_N (D2-PAK, 8-Leads, Body 8.6x10.2mm, Pitch 1.27mm, Lead Span 14.1mm, IPC Medium Density)
footprint TS7B_L (D2-PAK, 8-Leads, Body 8.6x10.2mm, Pitch 1.27mm, Lead Span 14.1mm, IPC High Density)
footprint TS7B_M (D2-PAK, 8-Leads, Body 8.6x10.2mm, Pitch 1.27mm, Lead Span 14.1mm, IPC Low Density)
pins: 1 FREQ ADJ/~{ON}/OFF (in), 2 COMP, 3 FB (in), 4 GND (power), 5 SW (power), 6 FREQ SYNC, 7 VIN (power), 8 TAB

## LM2586T-3.3
designator U?
SIMPLE SWITCHER® 3-Amp Flyback Regulator, 7-pin TO-220; PartNumber: LM2586T-3.3; Manufacturer: National Semiconductor; PackageTopMarking: NSUZXYTTE#*LM2586T*-3.3 P+; PowerWise: N; High-Reliability: Y; DatasheetVersion: Jul-2005; PackageVersion: revC, Apr-1999; PackageReference: TA07B; PackageDescription: TO-220, Molded, .400 x .590 x .180in Body, 7 Lead, .050in Pitch, Staggered; RoHS: N; PinCount: 7; CompType: Switcher; Code_JEDEC: TO-220-AB; ComponentLink1Description: Manufacturer URL; ComponentLink1URL: http://www.national.com/; ComponentLink2Description: LM2586 Datasheet; ComponentLink2URL: http://www.national.com/ds/LM/LM2586.pdf; ComponentLink3Description: LM2586 Web Page; ComponentLink3URL: http://www.national.com/pf/LM/LM2586.html; ComponentLink4Description: TA07B Package Page; ComponentLink4URL: http://www.national.com/packaging/folders/ta07b.html
footprint TA07B (TO, Thru-Hole, Vertical, Heatsink Mounted; 7 Bent Staggered Leads; Body 10.2x8.7x4.6mm, Pitch 1.27 mm)
pins: 1 FREQ ADJ/~{ON}/OFF (in), 2 COMP, 3 FB (in), 4 GND (power), 5 SW (power), 6 FREQ SYNC, 7 VIN (power)

## LM2586T-3.3/NOPB
designator U?
SIMPLE SWITCHER® 3-Amp Flyback Regulator, 7-pin TO-220, Pb-Free; PartNumber: LM2586T-3.3/NOPB; Manufacturer: National Semiconductor; PackageTopMarking: NSUZXYTTE#*LM2586T*-3.3 P+; PowerWise: N; High-Reliability: Y; DatasheetVersion: Jul-2005; PackageVersion: revC, Apr-1999; PackageReference: TA07B; PackageDescription: TO-220, Molded, .400 x .590 x .180in Body, 7 Lead, .050in Pitch, Staggered; RoHS: Y; PinCount: 7; CompType: Switcher; Code_JEDEC: TO-220-AB; ComponentLink1Description: Manufacturer URL; ComponentLink1URL: http://www.national.com/; ComponentLink2Description: LM2586 Datasheet; ComponentLink2URL: http://www.national.com/ds/LM/LM2586.pdf; ComponentLink3Description: LM2586 Web Page; ComponentLink3URL: http://www.national.com/pf/LM/LM2586.html; ComponentLink4Description: TA07B Package Page; ComponentLink4URL: http://www.national.com/packaging/folders/ta07b.html
footprint TA07B (TO, Thru-Hole, Vertical, Heatsink Mounted; 7 Bent Staggered Leads; Body 10.2x8.7x4.6mm, Pitch 1.27 mm)
pins: 1 FREQ ADJ/~{ON}/OFF (in), 2 COMP, 3 FB (in), 4 GND (power), 5 SW (power), 6 FREQ SYNC, 7 VIN (power)

## LM2586T-5.0
designator U?
SIMPLE SWITCHER® 3-Amp Flyback Regulator, 7-pin TO-220; PartNumber: LM2586T-5.0; Manufacturer: National Semiconductor; PackageTopMarking: NSUZXYTTE#*LM2586T*-5.0 P+; PowerWise: N; High-Reliability: Y; DatasheetVersion: Jul-2005; PackageVersion: revC, Apr-1999; PackageReference: TA07B; PackageDescription: TO-220, Molded, .400 x .590 x .180in Body, 7 Lead, .050in Pitch, Staggered; RoHS: N; PinCount: 7; CompType: Switcher; Code_JEDEC: TO-220-AB; ComponentLink1Description: Manufacturer URL; ComponentLink1URL: http://www.national.com/; ComponentLink2Description: LM2586 Datasheet; ComponentLink2URL: http://www.national.com/ds/LM/LM2586.pdf; ComponentLink3Description: LM2586 Web Page; ComponentLink3URL: http://www.national.com/pf/LM/LM2586.html; ComponentLink4Description: TA07B Package Page; ComponentLink4URL: http://www.national.com/packaging/folders/ta07b.html
footprint TA07B (TO, Thru-Hole, Vertical, Heatsink Mounted; 7 Bent Staggered Leads; Body 10.2x8.7x4.6mm, Pitch 1.27 mm)
pins: 1 FREQ ADJ/~{ON}/OFF (in), 2 COMP, 3 FB (in), 4 GND (power), 5 SW (power), 6 FREQ SYNC, 7 VIN (power)

## LM2586T-5.0/NOPB
designator U?
SIMPLE SWITCHER® 3-Amp Flyback Regulator, 7-pin TO-220, Pb-Free; PartNumber: LM2586T-5.0/NOPB; Manufacturer: National Semiconductor; PackageTopMarking: NSUZXYTTE#*LM2586T*-5.0 P+; PowerWise: N; High-Reliability: Y; DatasheetVersion: Jul-2005; PackageVersion: revC, Apr-1999; PackageReference: TA07B; PackageDescription: TO-220, Molded, .400 x .590 x .180in Body, 7 Lead, .050in Pitch, Staggered; RoHS: Y; PinCount: 7; CompType: Switcher; Code_JEDEC: TO-220-AB; ComponentLink1Description: Manufacturer URL; ComponentLink1URL: http://www.national.com/; ComponentLink2Description: LM2586 Datasheet; ComponentLink2URL: http://www.national.com/ds/LM/LM2586.pdf; ComponentLink3Description: LM2586 Web Page; ComponentLink3URL: http://www.national.com/pf/LM/LM2586.html; ComponentLink4Description: TA07B Package Page; ComponentLink4URL: http://www.national.com/packaging/folders/ta07b.html
footprint TA07B (TO, Thru-Hole, Vertical, Heatsink Mounted; 7 Bent Staggered Leads; Body 10.2x8.7x4.6mm, Pitch 1.27 mm)
pins: 1 FREQ ADJ/~{ON}/OFF (in), 2 COMP, 3 FB (in), 4 GND (power), 5 SW (power), 6 FREQ SYNC, 7 VIN (power)

## LM2586T-ADJ
designator U?
SIMPLE SWITCHER® 3-Amp Flyback Regulator, 7-pin TO-220; PartNumber: LM2586T-ADJ; Manufacturer: National Semiconductor; PackageTopMarking: NSUZXYTTE#*LM2586T*-ADJ P+; PowerWise: N; High-Reliability: Y; DatasheetVersion: Jul-2005; PackageVersion: revC, Apr-1999; PackageReference: TA07B; PackageDescription: TO-220, Molded, .400 x .590 x .180in Body, 7 Lead, .050in Pitch, Staggered; RoHS: N; PinCount: 7; CompType: Switcher; Code_JEDEC: TO-220-AB; ComponentLink1Description: Manufacturer URL; ComponentLink1URL: http://www.national.com/; ComponentLink2Description: LM2586 Datasheet; ComponentLink2URL: http://www.national.com/ds/LM/LM2586.pdf; ComponentLink3Description: LM2586 Web Page; ComponentLink3URL: http://www.national.com/pf/LM/LM2586.html; ComponentLink4Description: TA07B Package Page; ComponentLink4URL: http://www.national.com/packaging/folders/ta07b.html
footprint TA07B (TO, Thru-Hole, Vertical, Heatsink Mounted; 7 Bent Staggered Leads; Body 10.2x8.7x4.6mm, Pitch 1.27 mm)
pins: 1 FREQ ADJ/~{ON}/OFF (in), 2 COMP, 3 FB (in), 4 GND (power), 5 SW (power), 6 FREQ SYNC, 7 VIN (power)

## LM2586T-ADJ/NOPB
designator U?
SIMPLE SWITCHER® 3-Amp Flyback Regulator, 7-pin TO-220, Pb-Free; PartNumber: LM2586T-ADJ/NOPB; Manufacturer: National Semiconductor; PackageTopMarking: NSUZXYTTE#*LM2586T*-ADJ P+; PowerWise: N; High-Reliability: Y; DatasheetVersion: Jul-2005; PackageVersion: revC, Apr-1999; PackageReference: TA07B; PackageDescription: TO-220, Molded, .400 x .590 x .180in Body, 7 Lead, .050in Pitch, Staggered; RoHS: Y; PinCount: 7; CompType: Switcher; Code_JEDEC: TO-220-AB; ComponentLink1Description: Manufacturer URL; ComponentLink1URL: http://www.national.com/; ComponentLink2Description: LM2586 Datasheet; ComponentLink2URL: http://www.national.com/ds/LM/LM2586.pdf; ComponentLink3Description: LM2586 Web Page; ComponentLink3URL: http://www.national.com/pf/LM/LM2586.html; ComponentLink4Description: TA07B Package Page; ComponentLink4URL: http://www.national.com/packaging/folders/ta07b.html
footprint TA07B (TO, Thru-Hole, Vertical, Heatsink Mounted; 7 Bent Staggered Leads; Body 10.2x8.7x4.6mm, Pitch 1.27 mm)
pins: 1 FREQ ADJ/~{ON}/OFF (in), 2 COMP, 3 FB (in), 4 GND (power), 5 SW (power), 6 FREQ SYNC, 7 VIN (power)

## LM2587S-3.3
designator U?
SIMPLE SWITCHER® 5A Flyback Regulator, 5-pin TO-263; PartNumber: LM2587S-3.3; Manufacturer: National Semiconductor; PackageTopMarking: NSUZXYTTE#*LM2587S*-3.3 P+; PowerWise: N; High-Reliability: Y; DatasheetVersion: Feb-2010; PackageVersion: revD, Apr-2005; PackageReference: TS5B; PackageDescription: TO-263, Molded, .400 x .390 x .180in, 5 Lead, .067in Pitch, Surface Mount; RoHS: N; PinCount: 5; CompType: Switcher; Code_JEDEC: MO-169-AB; ComponentLink1Description: Manufacturer URL; ComponentLink1URL: http://www.national.com/; ComponentLink2Description: LM2587 Datasheet; ComponentLink2URL: http://www.national.com/ds/LM/LM2587.pdf; ComponentLink3Description: LM2587 Web Page; ComponentLink3URL: http://www.national.com/pf/LM/LM2587.html; ComponentLink4Description: TS5B Package Page; ComponentLink4URL: http://www.national.com/packaging/folders/ts5b.html
footprint TS5B_N (D2-PAK, 6-Leads, Body 8.6x10.2mm, Pitch 1.7mm, Lead Span 14.1mm, IPC Medium Density)
footprint TS5B_L (D2-PAK, 6-Leads, Body 8.6x10.2mm, Pitch 1.7mm, Lead Span 14.1mm, IPC High Density)
footprint TS5B_M (D2-PAK, 6-Leads, Body 8.6x10.2mm, Pitch 1.7mm, Lead Span 14.1mm, IPC Low Density)
pins: 1 COMP, 2 FB (in), 3 GND (power), 4 SW (power), 5 VIN (power), 6 TAB

## LM2587S-3.3/NOPB
designator U?
5A Flyback Regulator, 5-pin TO-263, Pb-Free; PartNumber: LM2587S-3.3/NOPB; Manufacturer: National Semiconductor; PackageTopMarking: NSUZXYTTE#*LM2587S*-3.3 P+; PowerWise: N; CompType: Switcher; High-Reliability: Y; DatasheetVersion: Feb-2010; PackageVersion: revD, Apr-2005; PackageReference: TS5B; PackageDescription: TO-263, Molded, .400 x .390 x .180in, 5 Lead, .067in Pitch, Surface Mount; RoHS: Y; PinCount: 5; Code_JEDEC: MO-169-AB; ComponentLink1Description: Manufacturer URL; ComponentLink1URL: http://www.national.com/; ComponentLink2Description: LM2587 Datasheet; ComponentLink2URL: http://www.national.com/ds/LM/LM2587.pdf; ComponentLink3Description: LM2587 Web Page; ComponentLink3URL: http://www.national.com/pf/LM/LM2587.html; ComponentLink4Description: TS5B Package Page; ComponentLink4URL: http://www.national.com/packaging/folders/ts5b.html
footprint TS5B_N (D2-PAK, 6-Leads, Body 8.6x10.2mm, Pitch 1.7mm, Lead Span 14.1mm, IPC Medium Density)
footprint TS5B_L (D2-PAK, 6-Leads, Body 8.6x10.2mm, Pitch 1.7mm, Lead Span 14.1mm, IPC High Density)
footprint TS5B_M (D2-PAK, 6-Leads, Body 8.6x10.2mm, Pitch 1.7mm, Lead Span 14.1mm, IPC Low Density)
pins: 1 COMP, 2 FB (in), 3 GND (power), 4 SW (power), 5 VIN (power), 6 TAB

## LM2587S-5.0
designator U?
SIMPLE SWITCHER® 5A Flyback Regulator, 5-pin TO-263; PartNumber: LM2587S-5.0; Manufacturer: National Semiconductor; PackageTopMarking: NSUZXYTTE#*LM2587S*-5.0 P+; PowerWise: N; High-Reliability: Y; DatasheetVersion: Feb-2010; PackageVersion: revD, Apr-2005; PackageReference: TS5B; PackageDescription: TO-263, Molded, .400 x .390 x .180in, 5 Lead, .067in Pitch, Surface Mount; RoHS: N; PinCount: 5; CompType: Switcher; Code_JEDEC: MO-169-AB; ComponentLink1Description: Manufacturer URL; ComponentLink1URL: http://www.national.com/; ComponentLink2Description: LM2587 Datasheet; ComponentLink2URL: http://www.national.com/ds/LM/LM2587.pdf; ComponentLink3Description: LM2587 Web Page; ComponentLink3URL: http://www.national.com/pf/LM/LM2587.html; ComponentLink4Description: TS5B Package Page; ComponentLink4URL: http://www.national.com/packaging/folders/ts5b.html
footprint TS5B_N (D2-PAK, 6-Leads, Body 8.6x10.2mm, Pitch 1.7mm, Lead Span 14.1mm, IPC Medium Density)
footprint TS5B_L (D2-PAK, 6-Leads, Body 8.6x10.2mm, Pitch 1.7mm, Lead Span 14.1mm, IPC High Density)
footprint TS5B_M (D2-PAK, 6-Leads, Body 8.6x10.2mm, Pitch 1.7mm, Lead Span 14.1mm, IPC Low Density)
pins: 1 COMP, 2 FB (in), 3 GND (power), 4 SW (power), 5 VIN (power), 6 TAB

## LM2587S-5.0/NOPB
designator U?
5A Flyback Regulator, 5-pin TO-263, Pb-Free; PartNumber: LM2587S-5.0/NOPB; Manufacturer: National Semiconductor; PackageTopMarking: NSUZXYTTE#*LM2587S*-5.0 P+; PowerWise: N; CompType: Switcher; High-Reliability: Y; DatasheetVersion: Feb-2010; PackageVersion: revD, Apr-2005; PackageReference: TS5B; PackageDescription: TO-263, Molded, .400 x .390 x .180in, 5 Lead, .067in Pitch, Surface Mount; RoHS: Y; PinCount: 5; Code_JEDEC: MO-169-AB; ComponentLink1Description: Manufacturer URL; ComponentLink1URL: http://www.national.com/; ComponentLink2Description: LM2587 Datasheet; ComponentLink2URL: http://www.national.com/ds/LM/LM2587.pdf; ComponentLink3Description: LM2587 Web Page; ComponentLink3URL: http://www.national.com/pf/LM/LM2587.html; ComponentLink4Description: TS5B Package Page; ComponentLink4URL: http://www.national.com/packaging/folders/ts5b.html
footprint TS5B_N (D2-PAK, 6-Leads, Body 8.6x10.2mm, Pitch 1.7mm, Lead Span 14.1mm, IPC Medium Density)
footprint TS5B_L (D2-PAK, 6-Leads, Body 8.6x10.2mm, Pitch 1.7mm, Lead Span 14.1mm, IPC High Density)
footprint TS5B_M (D2-PAK, 6-Leads, Body 8.6x10.2mm, Pitch 1.7mm, Lead Span 14.1mm, IPC Low Density)
pins: 1 COMP, 2 FB (in), 3 GND (power), 4 SW (power), 5 VIN (power), 6 TAB

## LM2587S-12
designator U?
SIMPLE SWITCHER® 5A Flyback Regulator, 5-pin TO-263; PartNumber: LM2587S-12; Manufacturer: National Semiconductor; PackageTopMarking: NSUZXYTTE#*LM2587S*-12 P+; PowerWise: N; High-Reliability: Y; DatasheetVersion: Feb-2010; PackageVersion: revD, Apr-2005; PackageReference: TS5B; PackageDescription: TO-263, Molded, .400 x .390 x .180in, 5 Lead, .067in Pitch, Surface Mount; RoHS: N; PinCount: 5; CompType: Switcher; Code_JEDEC: MO-169-AB; ComponentLink1Description: Manufacturer URL; ComponentLink1URL: http://www.national.com/; ComponentLink2Description: LM2587 Datasheet; ComponentLink2URL: http://www.national.com/ds/LM/LM2587.pdf; ComponentLink3Description: LM2587 Web Page; ComponentLink3URL: http://www.national.com/pf/LM/LM2587.html; ComponentLink4Description: TS5B Package Page; ComponentLink4URL: http://www.national.com/packaging/folders/ts5b.html
footprint TS5B_N (D2-PAK, 6-Leads, Body 8.6x10.2mm, Pitch 1.7mm, Lead Span 14.1mm, IPC Medium Density)
footprint TS5B_L (D2-PAK, 6-Leads, Body 8.6x10.2mm, Pitch 1.7mm, Lead Span 14.1mm, IPC High Density)
footprint TS5B_M (D2-PAK, 6-Leads, Body 8.6x10.2mm, Pitch 1.7mm, Lead Span 14.1mm, IPC Low Density)
pins: 1 COMP, 2 FB (in), 3 GND (power), 4 SW (power), 5 VIN (power), 6 TAB

## LM2587S-12/NOPB
designator U?
5A Flyback Regulator, 5-pin TO-263, Pb-Free; PartNumber: LM2587S-12/NOPB; Manufacturer: National Semiconductor; PackageTopMarking: NSUZXYTTE#*LM2587S*-12 P+; PowerWise: N; CompType: Switcher; High-Reliability: Y; DatasheetVersion: Feb-2010; PackageVersion: revD, Apr-2005; PackageReference: TS5B; PackageDescription: TO-263, Molded, .400 x .390 x .180in, 5 Lead, .067in Pitch, Surface Mount; RoHS: Y; PinCount: 5; Code_JEDEC: MO-169-AB; ComponentLink1Description: Manufacturer URL; ComponentLink1URL: http://www.national.com/; ComponentLink2Description: LM2587 Datasheet; ComponentLink2URL: http://www.national.com/ds/LM/LM2587.pdf; ComponentLink3Description: LM2587 Web Page; ComponentLink3URL: http://www.national.com/pf/LM/LM2587.html; ComponentLink4Description: TS5B Package Page; ComponentLink4URL: http://www.national.com/packaging/folders/ts5b.html
footprint TS5B_N (D2-PAK, 6-Leads, Body 8.6x10.2mm, Pitch 1.7mm, Lead Span 14.1mm, IPC Medium Density)
footprint TS5B_L (D2-PAK, 6-Leads, Body 8.6x10.2mm, Pitch 1.7mm, Lead Span 14.1mm, IPC High Density)
footprint TS5B_M (D2-PAK, 6-Leads, Body 8.6x10.2mm, Pitch 1.7mm, Lead Span 14.1mm, IPC Low Density)
pins: 1 COMP, 2 FB (in), 3 GND (power), 4 SW (power), 5 VIN (power), 6 TAB

## LM2587S-ADJ
designator U?
SIMPLE SWITCHER® 5A Flyback Regulator, 5-pin TO-263; PartNumber: LM2587S-ADJ; Manufacturer: National Semiconductor; PackageTopMarking: NSUZXYTTE#*LM2587S*-ADJ P+; PowerWise: N; High-Reliability: Y; DatasheetVersion: Feb-2010; PackageVersion: revD, Apr-2005; PackageReference: TS5B; PackageDescription: TO-263, Molded, .400 x .390 x .180in, 5 Lead, .067in Pitch, Surface Mount; RoHS: N; PinCount: 5; CompType: Switcher; Code_JEDEC: MO-169-AB; ComponentLink1Description: Manufacturer URL; ComponentLink1URL: http://www.national.com/; ComponentLink2Description: LM2587 Datasheet; ComponentLink2URL: http://www.national.com/ds/LM/LM2587.pdf; ComponentLink3Description: LM2587 Web Page; ComponentLink3URL: http://www.national.com/pf/LM/LM2587.html; ComponentLink4Description: TS5B Package Page; ComponentLink4URL: http://www.national.com/packaging/folders/ts5b.html
footprint TS5B_N (D2-PAK, 6-Leads, Body 8.6x10.2mm, Pitch 1.7mm, Lead Span 14.1mm, IPC Medium Density)
footprint TS5B_L (D2-PAK, 6-Leads, Body 8.6x10.2mm, Pitch 1.7mm, Lead Span 14.1mm, IPC High Density)
footprint TS5B_M (D2-PAK, 6-Leads, Body 8.6x10.2mm, Pitch 1.7mm, Lead Span 14.1mm, IPC Low Density)
pins: 1 COMP, 2 FB (in), 3 GND (power), 4 SW (power), 5 VIN (power), 6 TAB

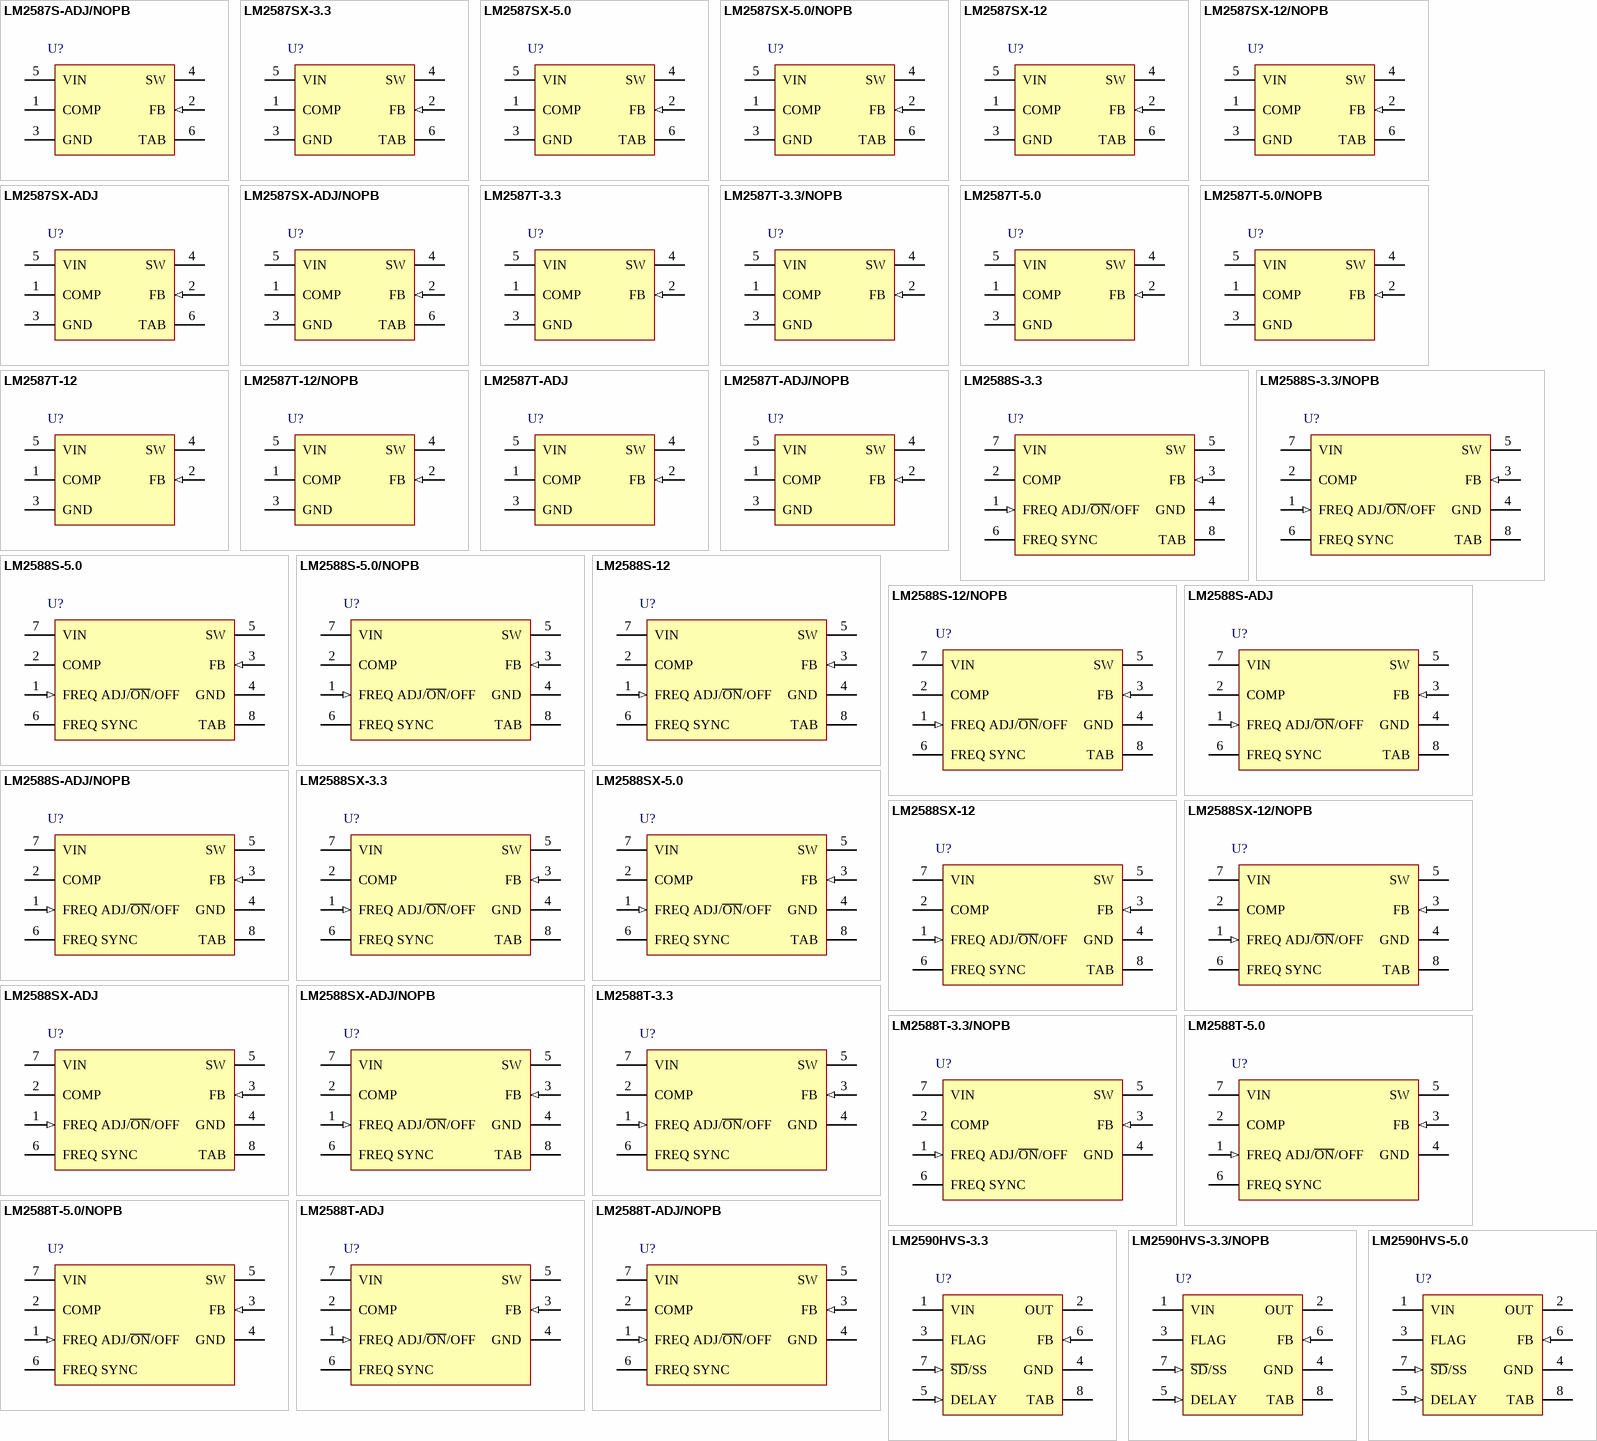
[diagram p7: symbols LM2587S-ADJ/NOPB to LM2590HVS-5.0]

## LM2587S-ADJ/NOPB
designator U?
5A Flyback Regulator, 5-pin TO-263, Pb-Free; PartNumber: LM2587S-ADJ/NOPB; Manufacturer: National Semiconductor; PackageTopMarking: NSUZXYTTE#*LM2587S*-ADJ P+; PowerWise: N; CompType: Switcher; High-Reliability: Y; DatasheetVersion: Feb-2010; PackageVersion: revD, Apr-2005; PackageReference: TS5B; PackageDescription: TO-263, Molded, .400 x .390 x .180in, 5 Lead, .067in Pitch, Surface Mount; RoHS: Y; PinCount: 5; Code_JEDEC: MO-169-AB; ComponentLink1Description: Manufacturer URL; ComponentLink1URL: http://www.national.com/; ComponentLink2Description: LM2587 Datasheet; ComponentLink2URL: http://www.national.com/ds/LM/LM2587.pdf; ComponentLink3Description: LM2587 Web Page; ComponentLink3URL: http://www.national.com/pf/LM/LM2587.html; ComponentLink4Description: TS5B Package Page; ComponentLink4URL: http://www.national.com/packaging/folders/ts5b.html
footprint TS5B_N (D2-PAK, 6-Leads, Body 8.6x10.2mm, Pitch 1.7mm, Lead Span 14.1mm, IPC Medium Density)
footprint TS5B_L (D2-PAK, 6-Leads, Body 8.6x10.2mm, Pitch 1.7mm, Lead Span 14.1mm, IPC High Density)
footprint TS5B_M (D2-PAK, 6-Leads, Body 8.6x10.2mm, Pitch 1.7mm, Lead Span 14.1mm, IPC Low Density)
pins: 1 COMP, 2 FB (in), 3 GND (power), 4 SW (power), 5 VIN (power), 6 TAB

## LM2587SX-3.3
designator U?
5A Flyback Regulator, 5-pin TO-263; PartNumber: LM2587SX-3.3; Manufacturer: National Semiconductor; PackageTopMarking: NSUZXYTTE#*LM2587S*-3.3 P+; PowerWise: N; CompType: Switcher; High-Reliability: Y; DatasheetVersion: Feb-2010; PackageVersion: revD, Apr-2005; PackageReference: TS5B; PackageDescription: TO-263, Molded, .400 x .390 x .180in, 5 Lead, .067in Pitch, Surface Mount; RoHS: N; PinCount: 5; Code_JEDEC: MO-169-AB; ComponentLink1Description: Manufacturer URL; ComponentLink1URL: http://www.national.com/; ComponentLink2Description: LM2587 Datasheet; ComponentLink2URL: http://www.national.com/ds/LM/LM2587.pdf; ComponentLink3Description: LM2587 Web Page; ComponentLink3URL: http://www.national.com/pf/LM/LM2587.html; ComponentLink4Description: TS5B Package Page; ComponentLink4URL: http://www.national.com/packaging/folders/ts5b.html
footprint TS5B_N (D2-PAK, 6-Leads, Body 8.6x10.2mm, Pitch 1.7mm, Lead Span 14.1mm, IPC Medium Density)
footprint TS5B_L (D2-PAK, 6-Leads, Body 8.6x10.2mm, Pitch 1.7mm, Lead Span 14.1mm, IPC High Density)
footprint TS5B_M (D2-PAK, 6-Leads, Body 8.6x10.2mm, Pitch 1.7mm, Lead Span 14.1mm, IPC Low Density)
pins: 1 COMP, 2 FB (in), 3 GND (power), 4 SW (power), 5 VIN (power), 6 TAB

## LM2587SX-5.0
designator U?
5A Flyback Regulator, 5-pin TO-263; PartNumber: LM2587SX-5.0; Manufacturer: National Semiconductor; PackageTopMarking: NSUZXYTTE#*LM2587S*-5.0 P+; PowerWise: N; CompType: Switcher; High-Reliability: Y; DatasheetVersion: Feb-2010; PackageVersion: revD, Apr-2005; PackageReference: TS5B; PackageDescription: TO-263, Molded, .400 x .390 x .180in, 5 Lead, .067in Pitch, Surface Mount; RoHS: N; PinCount: 5; Code_JEDEC: MO-169-AB; ComponentLink1Description: Manufacturer URL; ComponentLink1URL: http://www.national.com/; ComponentLink2Description: LM2587 Datasheet; ComponentLink2URL: http://www.national.com/ds/LM/LM2587.pdf; ComponentLink3Description: LM2587 Web Page; ComponentLink3URL: http://www.national.com/pf/LM/LM2587.html; ComponentLink4Description: TS5B Package Page; ComponentLink4URL: http://www.national.com/packaging/folders/ts5b.html
footprint TS5B_N (D2-PAK, 6-Leads, Body 8.6x10.2mm, Pitch 1.7mm, Lead Span 14.1mm, IPC Medium Density)
footprint TS5B_L (D2-PAK, 6-Leads, Body 8.6x10.2mm, Pitch 1.7mm, Lead Span 14.1mm, IPC High Density)
footprint TS5B_M (D2-PAK, 6-Leads, Body 8.6x10.2mm, Pitch 1.7mm, Lead Span 14.1mm, IPC Low Density)
pins: 1 COMP, 2 FB (in), 3 GND (power), 4 SW (power), 5 VIN (power), 6 TAB

## LM2587SX-5.0/NOPB
designator U?
5A Flyback Regulator, 5-pin TO-263, Pb-Free; PartNumber: LM2587SX-5.0/NOPB; Manufacturer: National Semiconductor; PackageTopMarking: NSUZXYTTE#*LM2587S*-5.0 P+; PowerWise: N; CompType: Switcher; High-Reliability: Y; DatasheetVersion: Feb-2010; PackageVersion: revD, Apr-2005; PackageReference: TS5B; PackageDescription: TO-263, Molded, .400 x .390 x .180in, 5 Lead, .067in Pitch, Surface Mount; RoHS: Y; PinCount: 5; Code_JEDEC: MO-169-AB; ComponentLink1Description: Manufacturer URL; ComponentLink1URL: http://www.national.com/; ComponentLink2Description: LM2587 Datasheet; ComponentLink2URL: http://www.national.com/ds/LM/LM2587.pdf; ComponentLink3Description: LM2587 Web Page; ComponentLink3URL: http://www.national.com/pf/LM/LM2587.html; ComponentLink4Description: TS5B Package Page; ComponentLink4URL: http://www.national.com/packaging/folders/ts5b.html
footprint TS5B_N (D2-PAK, 6-Leads, Body 8.6x10.2mm, Pitch 1.7mm, Lead Span 14.1mm, IPC Medium Density)
footprint TS5B_L (D2-PAK, 6-Leads, Body 8.6x10.2mm, Pitch 1.7mm, Lead Span 14.1mm, IPC High Density)
footprint TS5B_M (D2-PAK, 6-Leads, Body 8.6x10.2mm, Pitch 1.7mm, Lead Span 14.1mm, IPC Low Density)
pins: 1 COMP, 2 FB (in), 3 GND (power), 4 SW (power), 5 VIN (power), 6 TAB